# Altium schematic symbol library lib_wima.SchLib: 3 symbols
Pins are listed as number, name and electrical type; pins without a type are passive.

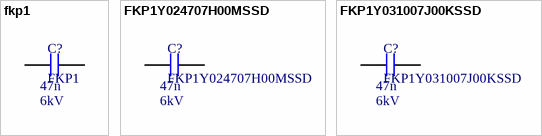
[diagram p0: symbols fkp1 to FKP1Y031007J00KSSD]

## fkp1
designator C?, comment FKP1  value 47n  voltage: 6kV
Polypropylene (PP) Capacitors for Pulse Applications with Metal Foil Electrodes and Metallized Internal Series Connection in PCM 15 mm to 52.5 mm.Capacitances from 100 pF to 4.7 mF. Rated Voltages from 400 VDC to 6000 VDC; ComponentLink1Description: Datasheet; ComponentLink1URL: https://www.wima.de/wp-content/uploads/media/e_WIMA_FKP_1.pdf
footprint FKP1Y031007J
footprint FKP1Y024707H
pins: 1, 2

## FKP1Y024707H00MSSD
designator C?  value 47n  voltage: 6kV
Polypropylene (PP) Capacitors for Pulse Applications with Metal Foil Electrodes and Metallized Internal Series Connection in PCM 15 mm to 52.5 mm.Capacitances from 100 pF to 4.7 mF. Rated Voltages from 400 VDC to 6000 VDC; ComponentLink1Description: Datasheet; ComponentLink1URL: https://www.wima.de/wp-content/uploads/media/e_WIMA_FKP_1.pdf; Supplier 1: Digi-Key; Supplier Part Number 1: 1928-1214-ND
footprint FKP1Y031007J
footprint FKP1Y024707H
pins: 1, 2

## FKP1Y031007J00KSSD
designator C?  value 47n  voltage: 6kV
Polypropylene (PP) Capacitors for Pulse Applications with Metal Foil Electrodes and Metallized Internal Series Connection in PCM 15 mm to 52.5 mm.Capacitances from 100 pF to 4.7 mF. Rated Voltages from 400 VDC to 6000 VDC; ComponentLink1Description: Datasheet; ComponentLink1URL: https://www.wima.de/wp-content/uploads/media/e_WIMA_FKP_1.pdf; Supplier 1: Digi-Key; Supplier Part Number 1: 1928-FKP1Y031007J00KSSD-ND
footprint FKP1Y031007J
footprint FKP1Y024707H
pins: 1, 2